# EAGLE library part PCA9685_PCA9685 (library BeoModern_display)
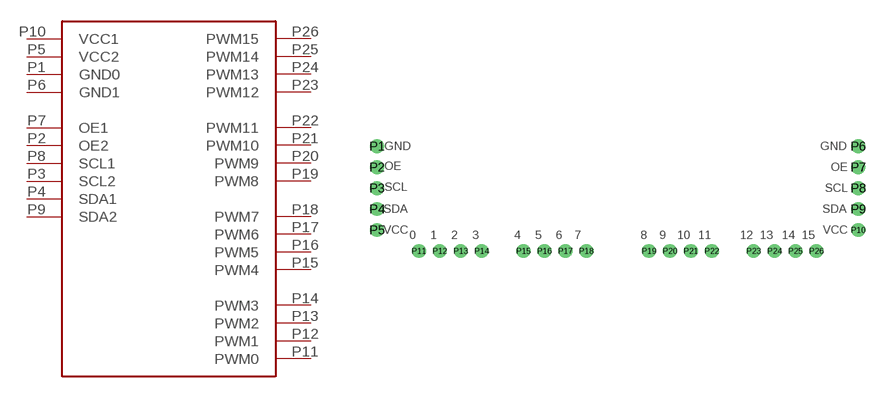
[diagram p1: symbol with the pads of PCA9685_PCA9685_FOOTPRINT; footprint PCA9685_PCA9685_FOOTPRINT]

Designator prefix -

## PCA9685_PCA9685  [PCA9685_PCA9685_FOOTPRINT]
P1  GND0
P2  OE2
P3  SCL2
P4  SDA1
P5  VCC2
P6  GND1
P7  OE1
P8  SCL1
P9  SDA2
P10  VCC1
P11  PWM0
P12  PWM1
P13  PWM2
P14  PWM3
P15  PWM4
P16  PWM5
P17  PWM6
P18  PWM7
P19  PWM8
P20  PWM9
P21  PWM10
P22  PWM11
P23  PWM12
P24  PWM13
P25  PWM14
P26  PWM15

## Footprint PCA9685_PCA9685_FOOTPRINT (pad centres in mm)
drill 1 pad 1.676: P1 -27.94,3.81; P2 -27.94,1.27; P3 -27.94,-1.27; P4 -27.94,-3.81; P5 -27.94,-6.35; P6 30.48,3.81; P7 30.48,1.27; P8 30.48,-1.27; P9 30.48,-3.81; P10 30.48,-6.35; P11 -22.86,-8.89; P12 -20.32,-8.89; P13 -17.78,-8.89; P14 -15.24,-8.89; P15 -10.16,-8.89; P16 -7.62,-8.89; P17 -5.08,-8.89; P18 -2.54,-8.89; P19 5.08,-8.89; P20 7.62,-8.89; P21 10.16,-8.89; P22 12.7,-8.89; P23 17.78,-8.89; P24 20.32,-8.89; P25 22.86,-8.89; P26 25.4,-8.89